# Altium schematic symbol library Sensor_STS21_1.Schlib: 1 symbol
Pins are listed as number, name and electrical type; pins without a type are passive.

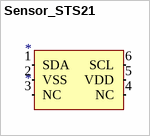
[diagram p0: symbol Sensor_STS21]

## Sensor_STS21
designator *
ComponentLink1Description: Datasheet; ComponentLink1URL: https://www.sensirion.com/fileadmin/user_upload/customers/sensirion/Dokumente/3_Temperature_Sensors/Sensirion_Temperature_Sensors_STS21_Datasheet_V2.pdf
footprint STS21-DNF6 (SON, 6-Leads, Body 3.00x3.00mm, Pitch 1.00mm, Thermal Pad 2.40x1.50mm, IPC Medium Density)
pins: 1 SDA, 2 VSS, 3 NC, 4 NC, 5 VDD, 6 SCL